# Altium schematic symbol library LM2678SX-5.0_NOPB.SchLib: 1 symbol
Pins are listed as number, name and electrical type; pins without a type are passive.

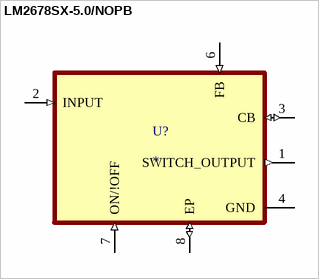
[diagram p0: symbol LM2678SX-5.0/NOPB]

## LM2678SX-5.0/NOPB
designator U?
8V to 40V, 5A SIMPLE SWITCHER buck converter with high efficiency 7-DDPAK/TO-263 -40 to 125; MF: Texas Instruments; MP: LM2678SX-5.0/NOPB; SnapEDA_Link: https://www.snapeda.com/parts/LM2678SX-5.0/NOPB/Texas%20Instruments/view-part/1219450/?ref=snap; Value: *; Purchase-URL: https://pricing.snapeda.com/search/part/LM2678SX-5.0/NOPB/?ref=eda; Package: TO-263-7 Texas Instruments; Check_prices: https://www.snapeda.com/parts/LM2678SX-5.0/NOPB/Texas%20Instruments/view-part/1219450/?ref=eda; Digi-Key_Part_Number: LM2678SX-5.0/NOPBCT-ND
footprint TO127P1435X464-8N
pins: 1 SWITCH_OUTPUT (out), 2 INPUT (in), 3 CB (io), 4 GND (power), 6 FB (in), 7 ON/!OFF (in), 8 EP (io)